# EAGLE library part ESP32-WROOM-UE (library JLB6_Processor)
SOC ESP32-Wroom E antene pcb
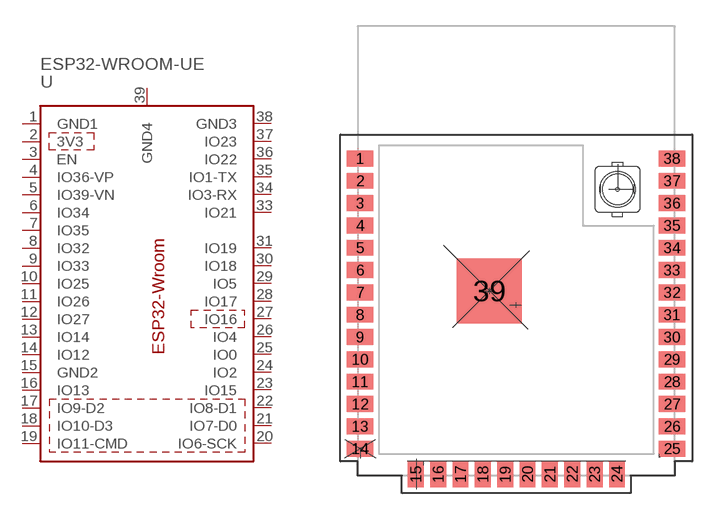
[diagram p38: symbol with the pads of ESP32-WROOM-32UE; footprint ESP32-WROOM-32UE]

Designator prefix U

## ESP32-WROOM-UE  [ESP32-WROOM-32UE]
1  GND1  pwr
2  3V3  pwr
3  EN
4  IO36-VP
5  IO39-VN
6  IO34
7  IO35
8  IO32
9  IO33
10  IO25
11  IO26
12  IO27
13  IO14
14  IO12
15  GND2  pwr
16  IO13
17  IO9-D2
18  IO10-D3  nc
19  IO11-CMD  nc
20  IO6-SCK  nc
21  IO7-D0  nc
22  IO8-D1  nc
23  IO15
24  IO2
25  IO0
26  IO4
27  IO16
28  IO17
29  IO5
30  IO18
31  IO19
33  IO21
34  IO3-RX
35  IO1-TX
36  IO22
37  IO23
38  GND3  pwr
39  GND4  pwr

## Footprint ESP32-WROOM-32UE (pad centres in mm)
smd 1.5 x 0.9: 1 -8.874,8.34; 2 -8.874,7.07; 3 -8.874,5.8; 4 -8.874,4.53; 5 -8.874,3.26; 6 -8.874,1.99; 7 -8.874,0.72; 8 -8.874,-0.55; 9 -8.874,-1.82; 10 -8.874,-3.09; 11 -8.874,-4.36; 12 -8.874,-5.63; 13 -8.874,-6.9; 14 -8.874,-8.17; 25 8.855,-8.17; 26 8.855,-6.9; 27 8.855,-5.63; 28 8.855,-4.36; 29 8.855,-3.09; 30 8.855,-1.82; 31 8.855,-0.55; 32 8.855,0.72; 33 8.855,1.99; 34 8.855,3.26; 35 8.855,4.53; 36 8.855,5.8; 37 8.855,7.07; 38 8.855,8.34
smd 0.9 x 1.5: 15 -5.71,-9.621; 16 -4.44,-9.621; 17 -3.17,-9.621; 18 -1.9,-9.621; 19 -0.63,-9.621; 20 0.64,-9.621; 21 1.91,-9.621; 22 3.18,-9.621; 23 4.45,-9.621; 24 5.72,-9.621
smd 3.7 x 3.7: 39 -1.53,0.81